# EAGLE library part VIP_MAX_IO_X (library boards)
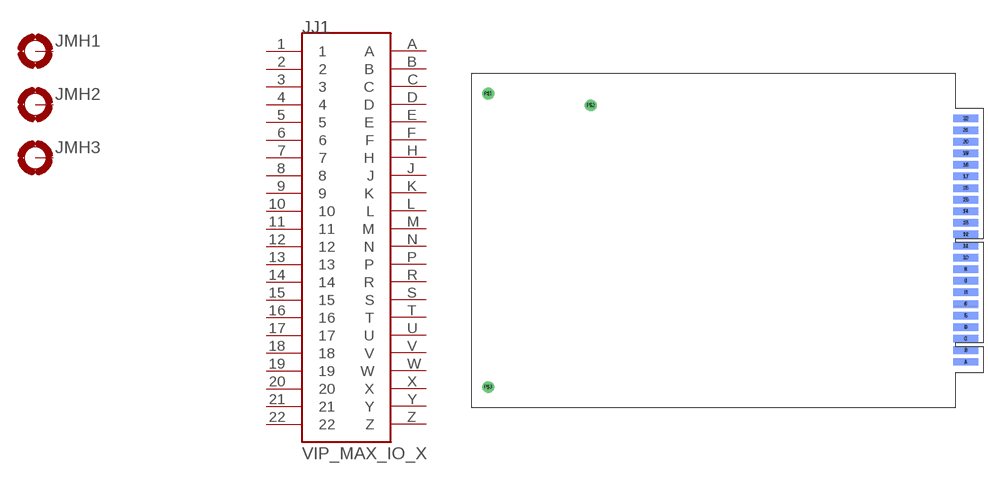
[diagram p1: symbol with the pads of VIP_MAX_IO_X; footprint VIP_MAX_IO_X]

Designator prefix J; gates MH1=MOUNT-PAD MH2=MOUNT-PAD MH3=MOUNT-PAD J1=CARD_EDGE_44P

## VIP_MAX_IO_X  [VIP_MAX_IO_X]
1  J1:1
2  J1:2
3  J1:3
4  J1:4
5  J1:5
6  J1:6
7  J1:7
8  J1:8
9  J1:9
10  J1:10
11  J1:11
12  J1:12
13  J1:13
14  J1:14
15  J1:15
16  J1:16
17  J1:17
18  J1:18
19  J1:19
20  J1:20
21  J1:21
22  J1:22
A  J1:A
B  J1:B
C  J1:C
D  J1:D
E  J1:E
F  J1:F
H  J1:H
J  J1:J
K  J1:K
L  J1:L
M  J1:M
N  J1:N
P  J1:P
P$1  MH1:MOUNT  pas
P$2  MH2:MOUNT  pas
P$3  MH3:MOUNT  pas
R  J1:R
S  J1:S
T  J1:T
U  J1:U
V  J1:V
W  J1:W
X  J1:X
Y  J1:Y
Z  J1:Z

## Footprint VIP_MAX_IO_X (pad centres in mm)
smd 8.509 x 2.54: 1 168.716,15.639; 2 168.716,19.593; 3 168.716,23.548; 4 168.716,27.503; 5 168.716,31.494; 6 168.716,35.412; 7 168.716,39.403; 8 168.716,43.357; 9 168.716,47.312; 10 168.716,51.303; 11 168.716,55.257; 12 168.716,59.212; 13 168.705,63.168; 14 168.705,67.138; 15 168.716,71.103; 16 168.716,75.056; 17 168.716,79.026; 18 168.716,82.979; 19 168.707,86.946; 20 168.707,90.899; 21 168.707,94.873; 22 168.735,98.847
smd 8.509 x 2.54 bottom: A 168.719,15.628; B 168.719,19.59; C 168.719,23.553; D 168.719,27.515; E 168.719,31.478; F 168.719,35.44; H 168.719,39.403; J 168.719,43.365; K 168.719,47.327; L 168.719,51.29; M 168.719,55.252; N 168.719,59.215; P 168.719,63.177; R 168.719,67.139; S 168.719,71.102; T 168.71,75.045; U 168.724,79.011; V 168.724,82.966; W 168.724,86.956; X 168.724,90.875; Y 168.724,94.865; Z 168.724,98.856
drill 3 round: P$1 5.57,107.36; P$2 40.64,103.35; P$3 5.57,7.03